# Altium footprint library Pathos.PcbLib: 69 footprints (part 1 of 5)
Each footprint in its own frame and in the unit in brackets; x right, y up, seen from the top. Pads: shape width x height; smd on the part's side, far side on the other; paste and mask are expansions set on the pad; w line width, h text height; cw(c..) or ccw(c..) is an arc to the next point about the centre after c.
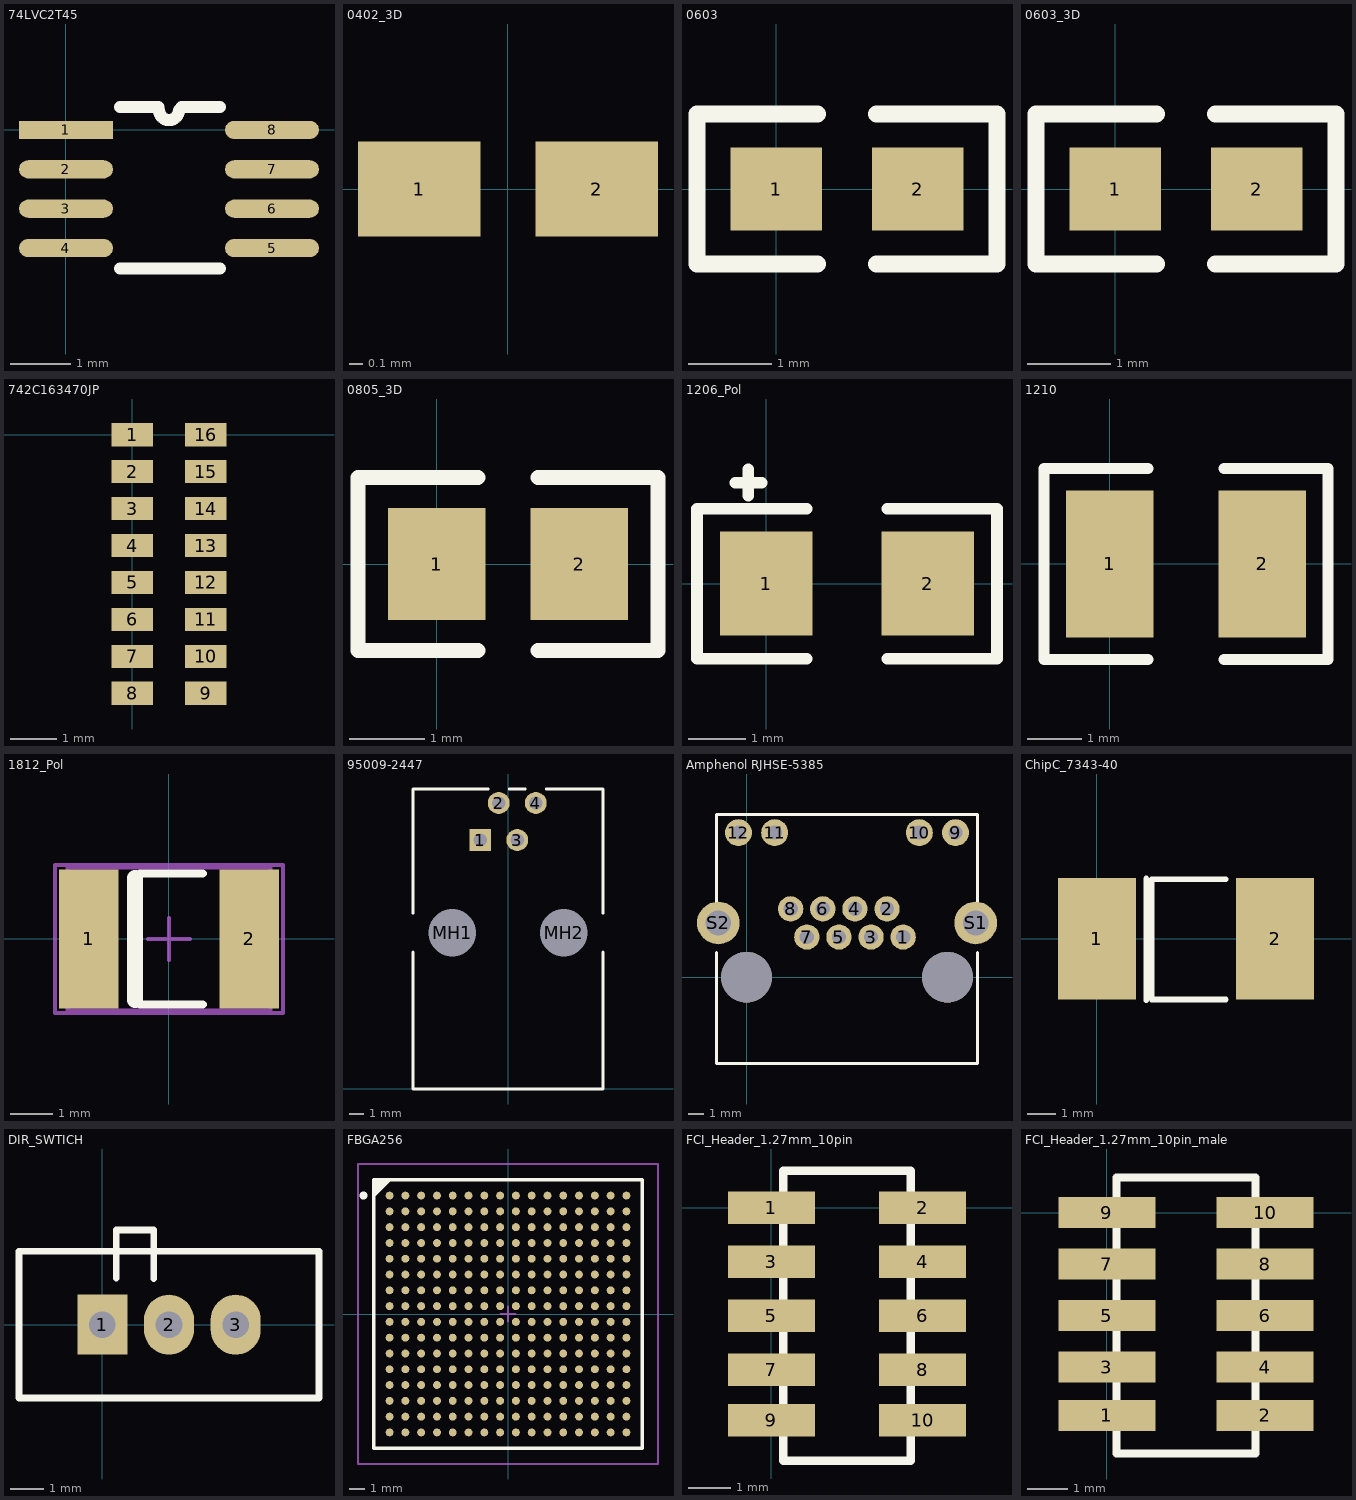
[diagram p0: the footprints below, top view; thin cyan lines are the x and y axes]

## 74LVC2T45 [mm]
pads (8):
  rect 1.55x0.3 smd: 1(0,0)
  oval 1.55x0.3 smd: 2(0,-0.65) 3(0,-1.3) 4(0,-1.95) 5(3.4,-1.95) 6(3.4,-1.3) 7(3.4,-0.65) 8(3.4,0)
Top Overlay:
  lines w0.2: 0.889,-2.286 2.54,-2.286 ; 0.889,0.381 1.524,0.381 ; 1.538,0.325 ccw(c1.7,0.325) 1.862,0.325 ; 1.905,0.381 2.54,0.381

## 0402_3D [mm] "SMD Chip 040 x 020 mil or 1.0 x 0.5 mm"
height 0.6
pads (2):
  rect 0.9x0.7 smd: 1(-0.65,0) 2(0.65,0)
3D body: height 0.6, standoff 0, extent -0.559,-0.356 0.559,0.356

## 0603 [mm] "SMD Chip 0603"
height 0.3
pads (2):
  rect 1.1x1 smd: 1(0,0) 2(1.7,0)
Top Overlay:
  lines w0.2: 0.5,-0.9 -0.95,-0.9 -0.95,0.9 0.5,0.9 ; 1.2,-0.9 2.65,-0.9 2.65,0.9 1.2,0.9
3D body: height 0.6, standoff 0, extent -0.127,-0.508 1.778,0.508

## 0603_3D [mm] "SMD Chip 0603"
height 0.3
pads (2):
  rect 1.1x1 smd: 1(0,0) 2(1.7,0)
Top Overlay:
  lines w0.2: 0.5,-0.9 -0.95,-0.9 -0.95,0.9 0.5,0.9 ; 1.2,-0.9 2.65,-0.9 2.65,0.9 1.2,0.9
3D body: height 0.6, standoff 0, extent -0.127,-0.508 1.778,0.508

## 742C163470JP [mm]
pads (16):
  rect 0.9x0.5 smd: 1(0,0) 2(0,-0.8) 3(0,-1.6) 4(0,-2.4) 5(0,-3.2) 6(0,-4) 7(0,-4.8) 8(0,-5.6) 9(1.6,-5.6) 10(1.6,-4.8) 11(1.6,-4) 12(1.6,-3.2) 13(1.6,-2.4) 14(1.6,-1.6) 15(1.6,-0.8) 16(1.6,0)

## 0805_3D [mm] "SMD Chip 0805"
height 0.5
pads (2):
  rect 1.3x1.5 smd: 1(0,0) 2(1.9,0)
Top Overlay:
  lines w0.2: 0.55,-1.15 -1.05,-1.15 -1.05,1.15 0.55,1.15 ; 1.35,-1.15 2.95,-1.15 2.95,1.15 1.35,1.15
3D body: height 1.25, standoff 0, extent -0.152,-0.635 2.083,0.635

## 1206_Pol [mm] "SMD Chip 1206"
height 0.7
pads (2):
  rect 1.6x1.8 smd: 1(0,0) 2(2.8,0)
Top Overlay:
  lines w0.2: -0.537,1.753 -0.079,1.753 ; -0.308,1.524 -0.308,1.981 ; 0.7,-1.3 -1.2,-1.3 -1.2,1.3 0.7,1.3 ; 2.1,-1.3 4,-1.3 4,1.3 2.1,1.3

## 1210 [mm] "SMD Chip 1210"
height 1
pads (2):
  rect 1.6x2.7 smd: 1(0,0) 2(2.8,0)
Top Overlay:
  lines w0.2: 0.7,-1.75 -1.2,-1.75 -1.2,1.75 0.7,1.75 ; 2.1,-1.75 4,-1.75 4,1.75 2.1,1.75

## 1812_Pol [mm] "Chip Capacitor, Body 4.5x3.2mm, IPC High Density"
height 1.4
pads (2):
  rect 1.4x3.3 smd: 1(-1.9,0) 2(1.9,0)
Top Overlay:
  lines w0.2: -0.8,-1.444 -0.694,-1.55 0.8,-1.55 ; -0.8,1.442 -0.692,1.55 0.8,1.55
  lines w0.381: -0.8,-1.444 -0.8,1.442
Mechanical 13:
  lines w0.1: -2.4,-1.7 2.4,-1.7 2.4,1.7 -2.4,1.7 -2.4,-1.7
Mechanical 15:
  lines w0.1: -0.5,0 0.5,0 ; 0,-0.5 0,0.5 ; -2.7,-1.75 2.7,-1.75 2.7,1.75 -2.7,1.75 -2.7,-1.75
3D body: height 1.4, standoff 0, extent -2.4,-1.7 2.4,1.7

## 95009-2447 [mm] "Connector; PCB Jack, Thru-Hole; 1-Port, 4 Positions, 4 Loaded; Unshielded without Lightpipes; Right Angle"
height 16
pads (6):
  rect 1.5x1.5 hole 0.9: 1(-1.905,17.07)
  round 1.5 hole 0.9: 2(-0.635,19.61) 3(0.635,17.07) 4(1.905,19.61)
  round 2.95 hole 3.25 unplated: MH1(-3.81,10.72) MH2(3.81,10.72)
Top Overlay:
  lines w0.2: -6.5,9.388 -6.5,0 6.5,0 6.5,9.388 ; -6.5,12.052 -6.5,20.57 -1.355,20.57 ; 0.085,20.57 1.185,20.57 ; 2.625,20.57 6.5,20.57 6.5,12.052

## Amphenol RJHSE-5385 [mm] "RJ45 Connector"
height 14.22
pads (16):
  round 1.6 hole 0.9: 1(9.9,2.54) 2(8.88,4.32) 3(7.87,2.54) 4(6.85,4.32) 5(5.84,2.54) 6(4.82,4.32) 7(3.81,2.54) 8(2.79,4.32)
  round 1.7 hole 0.9: 9(13.21,9.14) 10(10.92,9.14) 11(1.78,9.14) 12(-0.51,9.14)
  round 2.7 hole 1.6: S1(14.48,3.43) S2(-1.78,3.43)
  round 3.2 hole 3.2: ""(0,0) ""(12.7,0)
Top Overlay:
  lines w0.2: -1.9,1.556 -1.9,-5.46 14.6,-5.46 14.6,1.556 ; -1.9,4.528 -1.9,10.29 14.6,10.29 14.6,4.528
3D body: height 13.5, standoff 0, extent -1.9,-5.46 14.6,10.29

## ChipC_7343-40 [mm]
pads (2):
  rect 2.75x4.3 smd: 1(0,0) 2(6.3,0)
Top Overlay:
  lines w0.2: 1.75,-2.175 1.75,2.125 ; 4.55,-2.15 1.94,-2.15 1.94,2.1 4.55,2.1
3D body: height 4, standoff 0, extent -0.508,-2.134 6.68,2.159

## DIR_SWTICH [mm]
pads (3):
  rect 1.5x1.8 hole 0.8: 1(0,0)
  oval 1.5x1.8 hole 0.8: 2(2,0) 3(4,0)
Top Overlay:
  lines w0.2: 0.421,1.397 0.421,2.841 1.538,2.841 1.538,1.374 ; -2.5,-2.2 -2.5,2.2 6.5,2.2 6.5,-2.2 -2.5,-2.2

## FBGA256 [mm] "256-Ball FineLine Ball Grid Array (FBGA256) - Option 1"
height 2.2
pads (256):
  round 0.5 smd: A1(-7.5,7.5) A2(-6.5,7.5) A3(-5.5,7.5) A4(-4.5,7.5) A5(-3.5,7.5) A6(-2.5,7.5) A7(-1.5,7.5) A8(-0.5,7.5) A9(0.5,7.5) A10(1.5,7.5) A11(2.5,7.5) A12(3.5,7.5) A13(4.5,7.5) A14(5.5,7.5) A15(6.5,7.5) A16(7.5,7.5) B1(-7.5,6.5) B2(-6.5,6.5) B3(-5.5,6.5) B4(-4.5,6.5) B5(-3.5,6.5) B6(-2.5,6.5) B7(-1.5,6.5) B8(-0.5,6.5) B9(0.5,6.5) B10(1.5,6.5) B11(2.5,6.5) B12(3.5,6.5) B13(4.5,6.5) B14(5.5,6.5) B15(6.5,6.5) B16(7.5,6.5) C1(-7.5,5.5) C2(-6.5,5.5) C3(-5.5,5.5) C4(-4.5,5.5) C5(-3.5,5.5) C6(-2.5,5.5) C7(-1.5,5.5) C8(-0.5,5.5) C9(0.5,5.5) C10(1.5,5.5) C11(2.5,5.5) C12(3.5,5.5) C13(4.5,5.5) C14(5.5,5.5) C15(6.5,5.5) C16(7.5,5.5) D1(-7.5,4.5) D2(-6.5,4.5) D3(-5.5,4.5) D4(-4.5,4.5) D5(-3.5,4.5) D6(-2.5,4.5) D7(-1.5,4.5) D8(-0.5,4.5) D9(0.5,4.5) D10(1.5,4.5) D11(2.5,4.5) D12(3.5,4.5) D13(4.5,4.5) D14(5.5,4.5) D15(6.5,4.5) D16(7.5,4.5) E1(-7.5,3.5) E2(-6.5,3.5) E3(-5.5,3.5) E4(-4.5,3.5) E5(-3.5,3.5) E6(-2.5,3.5) E7(-1.5,3.5) E8(-0.5,3.5) E9(0.5,3.5) E10(1.5,3.5) E11(2.5,3.5) E12(3.5,3.5) E13(4.5,3.5) E14(5.5,3.5) E15(6.5,3.5) E16(7.5,3.5) F1(-7.5,2.5) F2(-6.5,2.5) F3(-5.5,2.5) F4(-4.5,2.5) F5(-3.5,2.5) F6(-2.5,2.5) F7(-1.5,2.5) F8(-0.5,2.5) F9(0.5,2.5) F10(1.5,2.5) F11(2.5,2.5) F12(3.5,2.5) F13(4.5,2.5) F14(5.5,2.5) F15(6.5,2.5) F16(7.5,2.5) G1(-7.5,1.5) G2(-6.5,1.5) G3(-5.5,1.5) G4(-4.5,1.5) G5(-3.5,1.5) G6(-2.5,1.5) G7(-1.5,1.5) G8(-0.5,1.5) G9(0.5,1.5) G10(1.5,1.5) G11(2.5,1.5) G12(3.5,1.5) G13(4.5,1.5) G14(5.5,1.5) G15(6.5,1.5) G16(7.5,1.5) H1(-7.5,0.5) H2(-6.5,0.5) H3(-5.5,0.5) H4(-4.5,0.5) H5(-3.5,0.5) H6(-2.5,0.5) H7(-1.5,0.5) H8(-0.5,0.5) H9(0.5,0.5) H10(1.5,0.5) H11(2.5,0.5) H12(3.5,0.5) H13(4.5,0.5) H14(5.5,0.5) H15(6.5,0.5) H16(7.5,0.5) J1(-7.5,-0.5) J2(-6.5,-0.5) J3(-5.5,-0.5) J4(-4.5,-0.5) J5(-3.5,-0.5) J6(-2.5,-0.5) J7(-1.5,-0.5) J8(-0.5,-0.5) J9(0.5,-0.5) J10(1.5,-0.5) J11(2.5,-0.5) J12(3.5,-0.5) J13(4.5,-0.5) J14(5.5,-0.5) J15(6.5,-0.5) J16(7.5,-0.5) K1(-7.5,-1.5) K2(-6.5,-1.5) K3(-5.5,-1.5) K4(-4.5,-1.5) K5(-3.5,-1.5) K6(-2.5,-1.5) K7(-1.5,-1.5) K8(-0.5,-1.5) K9(0.5,-1.5) K10(1.5,-1.5) K11(2.5,-1.5) K12(3.5,-1.5) K13(4.5,-1.5) K14(5.5,-1.5) K15(6.5,-1.5) K16(7.5,-1.5) L1(-7.5,-2.5) L2(-6.5,-2.5) L3(-5.5,-2.5) L4(-4.5,-2.5) L5(-3.5,-2.5) L6(-2.5,-2.5) L7(-1.5,-2.5) L8(-0.5,-2.5) L9(0.5,-2.5) L10(1.5,-2.5) L11(2.5,-2.5) L12(3.5,-2.5) L13(4.5,-2.5) L14(5.5,-2.5) L15(6.5,-2.5) L16(7.5,-2.5) M1(-7.5,-3.5) M2(-6.5,-3.5) M3(-5.5,-3.5) M4(-4.5,-3.5) M5(-3.5,-3.5) M6(-2.5,-3.5) M7(-1.5,-3.5) M8(-0.5,-3.5) M9(0.5,-3.5) M10(1.5,-3.5) M11(2.5,-3.5) M12(3.5,-3.5) M13(4.5,-3.5) M14(5.5,-3.5) M15(6.5,-3.5) M16(7.5,-3.5) N1(-7.5,-4.5) N2(-6.5,-4.5) N3(-5.5,-4.5) N4(-4.5,-4.5) N5(-3.5,-4.5) N6(-2.5,-4.5) N7(-1.5,-4.5) N8(-0.5,-4.5) N9(0.5,-4.5) N10(1.5,-4.5) N11(2.5,-4.5) N12(3.5,-4.5) N13(4.5,-4.5) N14(5.5,-4.5) N15(6.5,-4.5) N16(7.5,-4.5) P1(-7.5,-5.5) P2(-6.5,-5.5) P3(-5.5,-5.5) P4(-4.5,-5.5) P5(-3.5,-5.5) P6(-2.5,-5.5) P7(-1.5,-5.5) P8(-0.5,-5.5) P9(0.5,-5.5) P10(1.5,-5.5) P11(2.5,-5.5) P12(3.5,-5.5) P13(4.5,-5.5) P14(5.5,-5.5) P15(6.5,-5.5) P16(7.5,-5.5) R1(-7.5,-6.5) R2(-6.5,-6.5) R3(-5.5,-6.5) R4(-4.5,-6.5) R5(-3.5,-6.5) R6(-2.5,-6.5) R7(-1.5,-6.5) R8(-0.5,-6.5) R9(0.5,-6.5) R10(1.5,-6.5) R11(2.5,-6.5) R12(3.5,-6.5) R13(4.5,-6.5) R14(5.5,-6.5) R15(6.5,-6.5) R16(7.5,-6.5) T1(-7.5,-7.5) T2(-6.5,-7.5) T3(-5.5,-7.5) T4(-4.5,-7.5) T5(-3.5,-7.5) T6(-2.5,-7.5) T7(-1.5,-7.5) T8(-0.5,-7.5) T9(0.5,-7.5) T10(1.5,-7.5) T11(2.5,-7.5) T12(3.5,-7.5) T13(4.5,-7.5) T14(5.5,-7.5) T15(6.5,-7.5) T16(7.5,-7.5)
Top Overlay:
  circle w0.25: c-9.15,7.5 r0.125
  region: -7.5,8.5 -8.5,7.5 -8.5,8.5
  lines w0.2: -8.5,7.5 -7.5,8.5 ; -8.5,-8.5 -8.5,8.5 8.5,8.5 8.5,-8.5 -8.5,-8.5
Mechanical 13:
  lines w0.1: -8.5,-8.5 -8.5,8.5 8.5,8.5 8.5,-8.5 -8.5,-8.5
Mechanical 15:
  lines w0.1: -0.5,0 0.5,0 ; 0,-0.5 0,0.5 ; -9.5,-9.5 -9.5,9.5 9.5,9.5 9.5,-9.5 -9.5,-9.5
3D body: height 2.2, standoff 0, extent -8.5,-8.5 8.5,8.5

## FCI_Header_1.27mm_10pin [mm] "Farnell Nr. :  1865309"
pads (10):
  rect 2.05x0.76 smd: 1(0,0) 2(3.55,0) 3(0,-1.27) 4(3.55,-1.27) 5(0,-2.54) 6(3.55,-2.54) 7(0,-3.81) 8(3.55,-3.81) 9(0,-5) 10(3.55,-5)
Top Overlay:
  lines w0.2: 0.275,0.865 0.275,-5.945 3.275,-5.945 3.275,0.87 0.275,0.87
3D body: height 4.5, standoff 0, extent 0.275,-5.945 3.275,0.87

## FCI_Header_1.27mm_10pin_male [mm] "Farnell Nr. :  1865279"
pads (10):
  rect 2.4x0.76 smd: 1(0,-5) 2(3.9,-5) 3(0,-3.81) 4(3.9,-3.81) 5(0,-2.54) 6(3.9,-2.54) 7(0,-1.27) 8(3.9,-1.27) 9(0,0) 10(3.9,0)
Top Overlay:
  lines w0.2: 0.235,-5.945 3.665,-5.945 3.665,0.865 0.235,0.865 0.235,-5.945
3D body: height 5, standoff 0, extent 1.194,-5.945 2.692,0.865
3D body: height 1.5, standoff 0, extent 0.235,-5.945 3.665,0.865